# EAGLE library part NRF8001_BLE (library Richard_Boards)
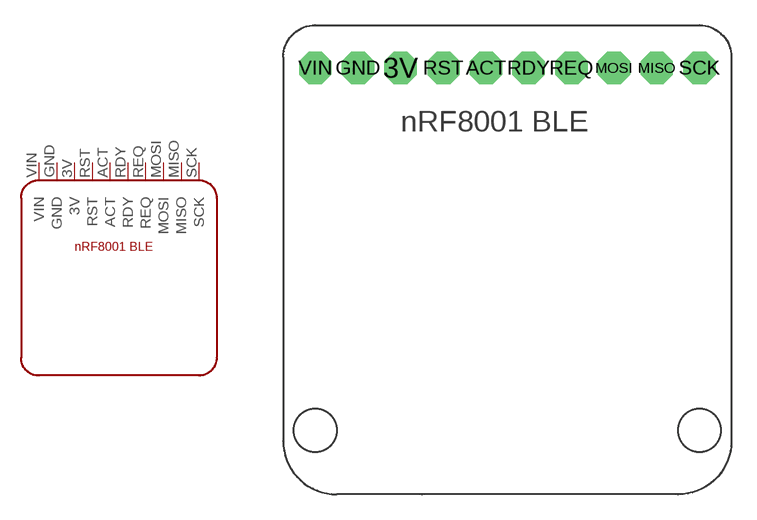
[diagram p11: symbol with the pads of NRF8001_BLE; footprint NRF8001_BLE]

Designator prefix -

## NRF8001_BLE  [NRF8001_BLE]
3V  3V  pas
ACT  ACT  pas
GND  GND  pas
MISO  MISO  pas
MOSI  MOSI  pas
RDY  RDY  pas
REQ  REQ  pas
RST  RST  pas
SCK  SCK  pas
VIN  VIN  pas

## Footprint NRF8001_BLE (pad centres in mm)
PIN HEADER
drill 1.016 pad 1.93 octagon: 3V -6.35,0; ACT -1.27,0; GND -8.89,0; MISO 8.89,0; MOSI 6.35,0; RDY 1.27,0; REQ 3.81,0; RST -3.81,0; SCK 11.43,0; VIN -11.43,0